# Altium schematic symbol library Led Lighting.SchLib: 1 symbol
Pins are listed as number, name and electrical type; pins without a type are passive.

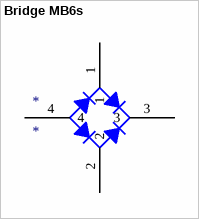
[diagram p0: symbol Bridge MB6s]

## Bridge MB6s
designator *
footprint MB6S
footprint MB6S
pins: 1, 2, 3, 4